# Altium integrated library Linear Technology Operational Amplifiers (LT1000).IntLib: 2280 symbols (part 22 of 79)
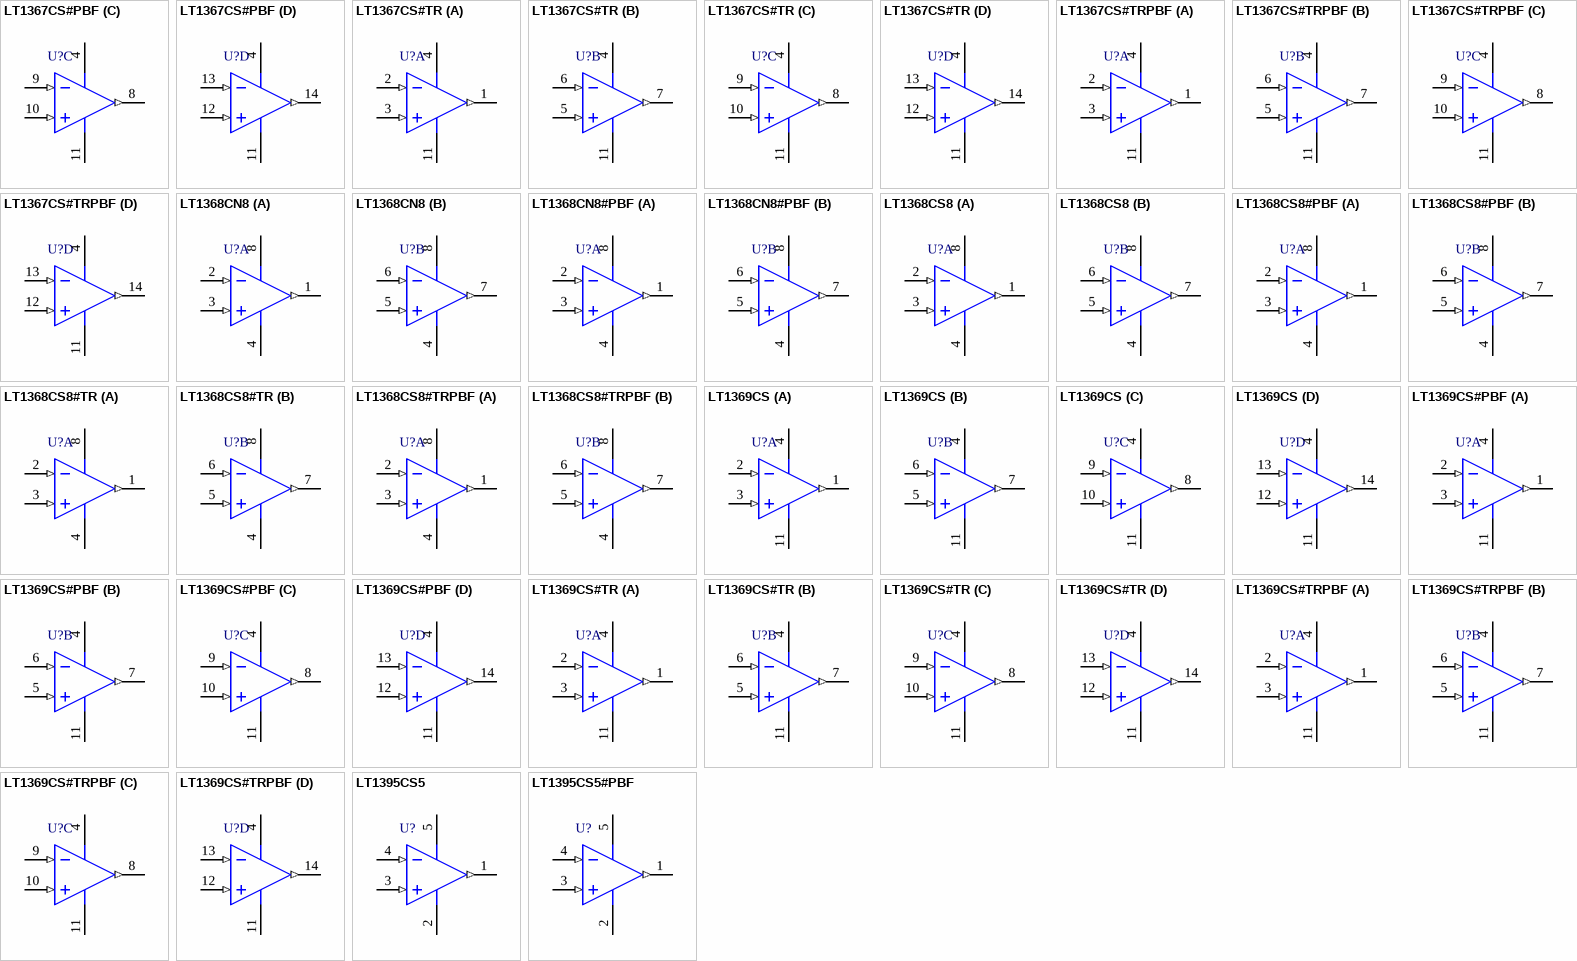
[diagram p126: symbols LT1367CS#PBF to LT1395CS5#PBF]

## LT1369CS#TR
designator U?
Quad Channel, Operational Amplifier, Stable with 100 nF C-load, 0.16 MHz Typical GBW, 0.065 V/us Typical SR, 2 to 36 V, 14-Pin SOIC (S-14), Commercial, Reel; Linear Technology Part Number: LT1369; Manufacturer: Linear Technology; PartNumber: LT1369CS#TR; Channels (#): 4; GBW (MHz) Typical: 0.16; Is (mA) Typical: 0.34; SR (V/us) Typical: 0.065; Vos (mV) Typical: 0.15; Vs Max (V): 36; Vs Min (V): 2; DatasheetVersion: Rev. B; PackageVersion: Rev G; PackageReference: LT-S-14; PackageDescription: 14-Lead Plastic Small Outline, Body 8.65 x 3.90 mm, Pitch 1.27 mm; Supplier 1: Digi-Key; Supplier Part Number 1: LT1369CS#TR-ND; Packing: Reel; Type: VFB; Mounting Technology: Surface Mount; ComponentLink1Description: Manufacturer URL; ComponentLink1URL: http://www.linear.com/; ComponentLink2Description: Datasheet; ComponentLink2URL: http://cds.linear.com/docs/en/datasheet/1366fb.pdf; ComponentLink3Description: Package Specification; ComponentLink3URL: http://cds.linear.com/docs/en/packaging/05081610_G_S14.pdf
footprint LT-S-14_N (SOIC, 14-Leads, Body 8.65x3.90mm, Pitch 1.27mm, IPC Medium Density)
footprint LT-S-14_L (SOIC, 14-Leads, Body 8.65x3.90mm, Pitch 1.27mm, IPC High Density)
footprint LT-S-14_M (SOIC, 14-Leads, Body 8.65x3.90mm, Pitch 1.27mm, IPC Low Density)
pins on every part: 4 V+ (power), 11 V- (power)
part A pins: 1 OUT A (out), 2 -IN A (in), 3 +IN A (in)
part B pins: 5 +IN B (in), 6 -IN B (in), 7 OUT B (out)
part C pins: 8 OUT C (out), 9 -IN C (in), 10 +IN C (in)
part D pins: 12 +IN D (in), 13 -IN D (in), 14 OUT D (out)

## LT1369CS#TRPBF
designator U?
Quad Channel, Operational Amplifier, Stable with 100 nF C-load, 0.16 MHz Typical GBW, 0.065 V/us Typical SR, 2 to 36 V, 14-Pin SOIC (S-14), Commercial, Pb-Free, Reel; Linear Technology Part Number: LT1369; Manufacturer: Linear Technology; PartNumber: LT1369CS#TRPBF; Channels (#): 4; GBW (MHz) Typical: 0.16; Is (mA) Typical: 0.34; SR (V/us) Typical: 0.065; Vos (mV) Typical: 0.15; Vs Max (V): 36; Vs Min (V): 2; DatasheetVersion: Rev. B; PackageVersion: Rev G; PackageReference: LT-S-14; PackageDescription: 14-Lead Plastic Small Outline, Body 8.65 x 3.90 mm, Pitch 1.27 mm; Supplier 1: Digi-Key; Supplier Part Number 1: LT1369CS#TRPBF-ND; Packing: Reel; RoHS: Pb-Free; Type: VFB; Mounting Technology: Surface Mount; ComponentLink1Description: Manufacturer URL; ComponentLink1URL: http://www.linear.com/; ComponentLink2Description: Datasheet; ComponentLink2URL: http://cds.linear.com/docs/en/datasheet/1366fb.pdf; ComponentLink3Description: Package Specification; ComponentLink3URL: http://cds.linear.com/docs/en/packaging/05081610_G_S14.pdf
footprint LT-S-14_N (SOIC, 14-Leads, Body 8.65x3.90mm, Pitch 1.27mm, IPC Medium Density)
footprint LT-S-14_L (SOIC, 14-Leads, Body 8.65x3.90mm, Pitch 1.27mm, IPC High Density)
footprint LT-S-14_M (SOIC, 14-Leads, Body 8.65x3.90mm, Pitch 1.27mm, IPC Low Density)
pins on every part: 4 V+ (power), 11 V- (power)
part A pins: 1 OUT A (out), 2 -IN A (in), 3 +IN A (in)
part B pins: 5 +IN B (in), 6 -IN B (in), 7 OUT B (out)
part C pins: 8 OUT C (out), 9 -IN C (in), 10 +IN C (in)
part D pins: 12 +IN D (in), 13 -IN D (in), 14 OUT D (out)

## LT1395CS5
designator U?
Single Channel, Current Feedback Amplifier, 100 MHz 0.1 dB Bandwidth, 400 MHz Typical GBW, 800 V/us Typical SR, 3 to 12.6 V, 5-Pin SOT23 (S5-5), Commercial; Linear Technology Part Number: LT1395; Manufacturer: Linear Technology; PartNumber: LT1395CS5; Channels (#): 1; GBW (MHz) Typical: 400; Is (mA) Typical: 4.6; SR (V/us) Typical: 800; Vos (mV) Typical: 10; Vs Max (V): 12.6; Vs Min (V): 3; DatasheetVersion: Rev. D; PackageReference: LT-S5-5-TSOT-23; PackageDescription: 5-Lead Plastic TSOT-23, Body 1.63 x 2.90 mm, Pitch 0.95 mm; Type: CFA; Mounting Technology: Surface Mount; Code_JEDEC: MO-193; ComponentLink1Description: Manufacturer URL; ComponentLink1URL: http://www.linear.com/; ComponentLink2Description: Datasheet; ComponentLink2URL: http://cds.linear.com/docs/en/datasheet/139567fd.pdf; ComponentLink3Description: Package Specification; ComponentLink3URL: http://cds.linear.com/docs/en/packaging/SOT_5_05-08-1635.pdf
footprint LT-S5-5-TSOT-23_N (SOT23, 5-Leads, Body 2.90x1.63mm, Pitch 0.95mm, IPC Medium Density)
footprint LT-S5-5-TSOT-23_L (SOT23, 5-Leads, Body 2.90x1.63mm, Pitch 0.95mm, IPC High Density)
footprint LT-S5-5-TSOT-23_M (SOT23, 5-Leads, Body 2.90x1.63mm, Pitch 0.95mm, IPC Low Density)
pins: 1 OUT (out) "Output.", 2 V- (power) "Negative Supply Voltage, Usually -5V.", 3 +IN (in) "Noninverting Input.", 4 -IN (in) "Inverting Input.", 5 V+ (power) "Positive Supply Voltage, Usually 5V."

## LT1395CS5#PBF
designator U?
Single Channel, Current Feedback Amplifier, 100 MHz 0.1 dB Bandwidth, 400 MHz Typical GBW, 800 V/us Typical SR, 3 to 12.6 V, 5-Pin SOT23 (S5-5), Commercial, Pb-Free; Linear Technology Part Number: LT1395; Manufacturer: Linear Technology; PartNumber: LT1395CS5#PBF; Channels (#): 1; GBW (MHz) Typical: 400; Is (mA) Typical: 4.6; SR (V/us) Typical: 800; Vos (mV) Typical: 10; Vs Max (V): 12.6; Vs Min (V): 3; DatasheetVersion: Rev. D; PackageReference: LT-S5-5-TSOT-23; PackageDescription: 5-Lead Plastic TSOT-23, Body 1.63 x 2.90 mm, Pitch 0.95 mm; Supplier 1: Newark; Supplier Part Number 1: 71R4435; Supplier 2: Newark; Supplier Part Number 2: 69W6147; RoHS: Pb-Free; Type: CFA; Mounting Technology: Surface Mount; Code_JEDEC: MO-193; ComponentLink1Description: Manufacturer URL; ComponentLink1URL: http://www.linear.com/; ComponentLink2Description: Datasheet; ComponentLink2URL: http://cds.linear.com/docs/en/datasheet/139567fd.pdf; ComponentLink3Description: Package Specification; ComponentLink3URL: http://cds.linear.com/docs/en/packaging/SOT_5_05-08-1635.pdf
footprint LT-S5-5-TSOT-23_N (SOT23, 5-Leads, Body 2.90x1.63mm, Pitch 0.95mm, IPC Medium Density)
footprint LT-S5-5-TSOT-23_L (SOT23, 5-Leads, Body 2.90x1.63mm, Pitch 0.95mm, IPC High Density)
footprint LT-S5-5-TSOT-23_M (SOT23, 5-Leads, Body 2.90x1.63mm, Pitch 0.95mm, IPC Low Density)
pins: 1 OUT (out) "Output.", 2 V- (power) "Negative Supply Voltage, Usually -5V.", 3 +IN (in) "Noninverting Input.", 4 -IN (in) "Inverting Input.", 5 V+ (power) "Positive Supply Voltage, Usually 5V."

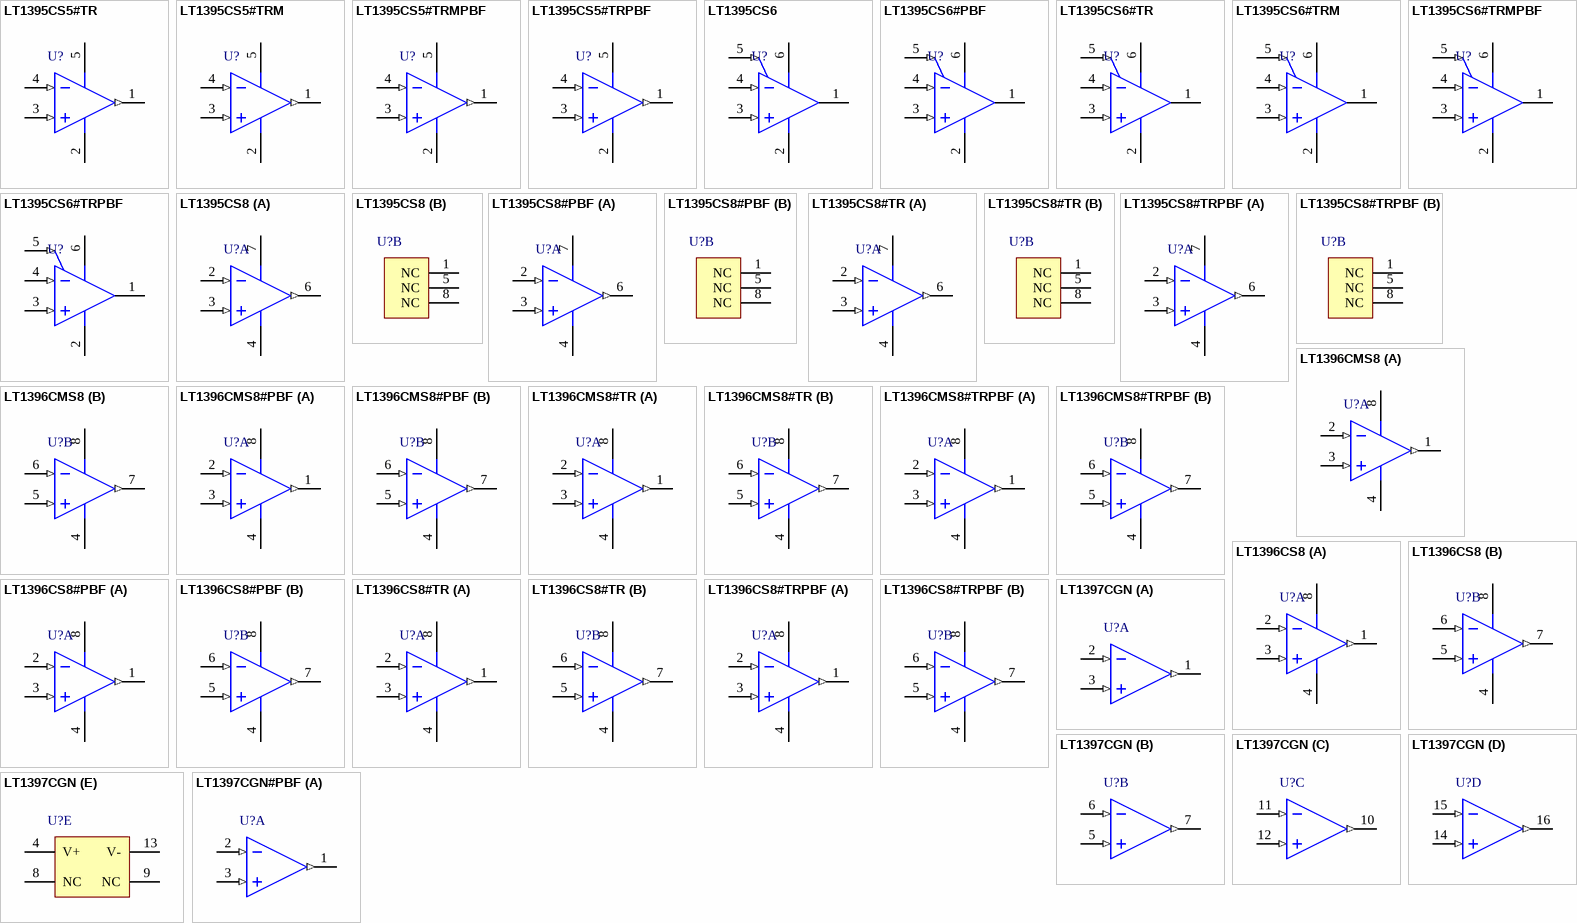
[diagram p34: symbols LT1395CS5#TR to LT1397CGN#PBF]

## LT1395CS5#TR
designator U?
Single Channel, Current Feedback Amplifier, 100 MHz 0.1 dB Bandwidth, 400 MHz Typical GBW, 800 V/us Typical SR, 3 to 12.6 V, 5-Pin SOT23 (S5-5), Commercial, Reel; Linear Technology Part Number: LT1395; Manufacturer: Linear Technology; PartNumber: LT1395CS5#TR; Channels (#): 1; GBW (MHz) Typical: 400; Is (mA) Typical: 4.6; SR (V/us) Typical: 800; Vos (mV) Typical: 10; Vs Max (V): 12.6; Vs Min (V): 3; DatasheetVersion: Rev. D; PackageReference: LT-S5-5-TSOT-23; PackageDescription: 5-Lead Plastic TSOT-23, Body 1.63 x 2.90 mm, Pitch 0.95 mm; Supplier 1: Digi-Key; Supplier Part Number 1: LT1395CS5#TR-ND; Packing: Reel; Type: CFA; Mounting Technology: Surface Mount; Code_JEDEC: MO-193; ComponentLink1Description: Manufacturer URL; ComponentLink1URL: http://www.linear.com/; ComponentLink2Description: Datasheet; ComponentLink2URL: http://cds.linear.com/docs/en/datasheet/139567fd.pdf; ComponentLink3Description: Package Specification; ComponentLink3URL: http://cds.linear.com/docs/en/packaging/SOT_5_05-08-1635.pdf
footprint LT-S5-5-TSOT-23_N (SOT23, 5-Leads, Body 2.90x1.63mm, Pitch 0.95mm, IPC Medium Density)
footprint LT-S5-5-TSOT-23_L (SOT23, 5-Leads, Body 2.90x1.63mm, Pitch 0.95mm, IPC High Density)
footprint LT-S5-5-TSOT-23_M (SOT23, 5-Leads, Body 2.90x1.63mm, Pitch 0.95mm, IPC Low Density)
pins: 1 OUT (out) "Output.", 2 V- (power) "Negative Supply Voltage, Usually -5V.", 3 +IN (in) "Noninverting Input.", 4 -IN (in) "Inverting Input.", 5 V+ (power) "Positive Supply Voltage, Usually 5V."

## LT1395CS5#TRM
designator U?
Single Channel, Current Feedback Amplifier, 100 MHz 0.1 dB Bandwidth, 400 MHz Typical GBW, 800 V/us Typical SR, 3 to 12.6 V, 5-Pin SOT23 (S5-5), Commercial, Mini Reel; Linear Technology Part Number: LT1395; Manufacturer: Linear Technology; PartNumber: LT1395CS5#TRM; Channels (#): 1; GBW (MHz) Typical: 400; Is (mA) Typical: 4.6; SR (V/us) Typical: 800; Vos (mV) Typical: 10; Vs Max (V): 12.6; Vs Min (V): 3; DatasheetVersion: Rev. D; PackageReference: LT-S5-5-TSOT-23; PackageDescription: 5-Lead Plastic TSOT-23, Body 1.63 x 2.90 mm, Pitch 0.95 mm; Supplier 1: Digi-Key; Supplier Part Number 1: LT1395CS5#TRMTR-ND; Supplier 2: Digi-Key; Supplier Part Number 2: LT1395CS5#TRMCT-ND; Packing: Mini Reel; Type: CFA; Mounting Technology: Surface Mount; Code_JEDEC: MO-193; ComponentLink1Description: Manufacturer URL; ComponentLink1URL: http://www.linear.com/; ComponentLink2Description: Datasheet; ComponentLink2URL: http://cds.linear.com/docs/en/datasheet/139567fd.pdf; ComponentLink3Description: Package Specification; ComponentLink3URL: http://cds.linear.com/docs/en/packaging/SOT_5_05-08-1635.pdf
footprint LT-S5-5-TSOT-23_N (SOT23, 5-Leads, Body 2.90x1.63mm, Pitch 0.95mm, IPC Medium Density)
footprint LT-S5-5-TSOT-23_L (SOT23, 5-Leads, Body 2.90x1.63mm, Pitch 0.95mm, IPC High Density)
footprint LT-S5-5-TSOT-23_M (SOT23, 5-Leads, Body 2.90x1.63mm, Pitch 0.95mm, IPC Low Density)
pins: 1 OUT (out) "Output.", 2 V- (power) "Negative Supply Voltage, Usually -5V.", 3 +IN (in) "Noninverting Input.", 4 -IN (in) "Inverting Input.", 5 V+ (power) "Positive Supply Voltage, Usually 5V."

## LT1395CS5#TRMPBF
designator U?
Single Channel, Current Feedback Amplifier, 100 MHz 0.1 dB Bandwidth, 400 MHz Typical GBW, 800 V/us Typical SR, 3 to 12.6 V, 5-Pin SOT23 (S5-5), Commercial, Pb-Free, Mini Reel; Linear Technology Part Number: LT1395; Manufacturer: Linear Technology; PartNumber: LT1395CS5#TRMPBF; Channels (#): 1; GBW (MHz) Typical: 400; Is (mA) Typical: 4.6; SR (V/us) Typical: 800; Vos (mV) Typical: 10; Vs Max (V): 12.6; Vs Min (V): 3; DatasheetVersion: Rev. D; PackageReference: LT-S5-5-TSOT-23; PackageDescription: 5-Lead Plastic TSOT-23, Body 1.63 x 2.90 mm, Pitch 0.95 mm; Supplier 1: Digi-Key; Supplier Part Number 1: LT1395CS5#TRMPBFTR-ND; Supplier 2: Digi-Key; Supplier Part Number 2: LT1395CS5#TRMPBFCT-ND; Supplier 3: Digi-Key; Supplier Part Number 3: LT1395CS5#TRMPBFDKR-ND; Supplier 4: Farnell; Supplier Part Number 4: 1663758; Packing: Mini Reel; RoHS: Pb-Free; Type: CFA; Mounting Technology: Surface Mount; Code_JEDEC: MO-193; ComponentLink1Description: Manufacturer URL; ComponentLink1URL: http://www.linear.com/; ComponentLink2Description: Datasheet; ComponentLink2URL: http://cds.linear.com/docs/en/datasheet/139567fd.pdf; ComponentLink3Description: Package Specification; ComponentLink3URL: http://cds.linear.com/docs/en/packaging/SOT_5_05-08-1635.pdf
footprint LT-S5-5-TSOT-23_N (SOT23, 5-Leads, Body 2.90x1.63mm, Pitch 0.95mm, IPC Medium Density)
footprint LT-S5-5-TSOT-23_L (SOT23, 5-Leads, Body 2.90x1.63mm, Pitch 0.95mm, IPC High Density)
footprint LT-S5-5-TSOT-23_M (SOT23, 5-Leads, Body 2.90x1.63mm, Pitch 0.95mm, IPC Low Density)
pins: 1 OUT (out) "Output.", 2 V- (power) "Negative Supply Voltage, Usually -5V.", 3 +IN (in) "Noninverting Input.", 4 -IN (in) "Inverting Input.", 5 V+ (power) "Positive Supply Voltage, Usually 5V."

## LT1395CS5#TRPBF
designator U?
Single Channel, Current Feedback Amplifier, 100 MHz 0.1 dB Bandwidth, 400 MHz Typical GBW, 800 V/us Typical SR, 3 to 12.6 V, 5-Pin SOT23 (S5-5), Commercial, Pb-Free, Reel; Linear Technology Part Number: LT1395; Manufacturer: Linear Technology; PartNumber: LT1395CS5#TRPBF; Channels (#): 1; GBW (MHz) Typical: 400; Is (mA) Typical: 4.6; SR (V/us) Typical: 800; Vos (mV) Typical: 10; Vs Max (V): 12.6; Vs Min (V): 3; DatasheetVersion: Rev. D; PackageReference: LT-S5-5-TSOT-23; PackageDescription: 5-Lead Plastic TSOT-23, Body 1.63 x 2.90 mm, Pitch 0.95 mm; Supplier 1: Digi-Key; Supplier Part Number 1: LT1395CS5#TRPBF-ND; Supplier 2: Newark; Supplier Part Number 2: 57M3871; Packing: Reel; RoHS: Pb-Free; Type: CFA; Mounting Technology: Surface Mount; Code_JEDEC: MO-193; ComponentLink1Description: Manufacturer URL; ComponentLink1URL: http://www.linear.com/; ComponentLink2Description: Datasheet; ComponentLink2URL: http://cds.linear.com/docs/en/datasheet/139567fd.pdf; ComponentLink3Description: Package Specification; ComponentLink3URL: http://cds.linear.com/docs/en/packaging/SOT_5_05-08-1635.pdf
footprint LT-S5-5-TSOT-23_N (SOT23, 5-Leads, Body 2.90x1.63mm, Pitch 0.95mm, IPC Medium Density)
footprint LT-S5-5-TSOT-23_L (SOT23, 5-Leads, Body 2.90x1.63mm, Pitch 0.95mm, IPC High Density)
footprint LT-S5-5-TSOT-23_M (SOT23, 5-Leads, Body 2.90x1.63mm, Pitch 0.95mm, IPC Low Density)
pins: 1 OUT (out) "Output.", 2 V- (power) "Negative Supply Voltage, Usually -5V.", 3 +IN (in) "Noninverting Input.", 4 -IN (in) "Inverting Input.", 5 V+ (power) "Positive Supply Voltage, Usually 5V."

## LT1395CS6
designator U?
Single Channel, Current Feedback Amplifier, 100 MHz 0.1 dB Bandwidth, 400 MHz Typical GBW, 800 V/us Typical SR, 3 to 12.6 V, 6-Pin SOT23 (S6-6), Commercial; Linear Technology Part Number: LT1395; Manufacturer: Linear Technology; PartNumber: LT1395CS6; Channels (#): 1; GBW (MHz) Typical: 400; Is (mA) Typical: 4.6; SR (V/us) Typical: 800; Vos (mV) Typical: 10; Vs Max (V): 12.6; Vs Min (V): 3; DatasheetVersion: Rev. D; PackageReference: LT-S6-6-TSOT-23; PackageDescription: 6-Pin Plastic TSOT-23, Body 2.9 x 1.63 mm, Pitch 0.95 mm; Type: CFA; Mounting Technology: Surface Mount; Code_JEDEC: MO-193; ComponentLink1Description: Manufacturer URL; ComponentLink1URL: http://www.linear.com/; ComponentLink2Description: Datasheet; ComponentLink2URL: http://cds.linear.com/docs/en/datasheet/139567fd.pdf; ComponentLink3Description: Package Specification; ComponentLink3URL: http://cds.linear.com/docs/en/packaging/SOT_6_05-08-1636.pdf
footprint LT-S6-6-TSOT-23_N (SOT23, 6-Leads, Body 2.90x1.63mm, Pitch 0.95mm, IPC Medium Density)
footprint LT-S6-6-TSOT-23_L (SOT23, 6-Leads, Body 2.90x1.63mm, Pitch 0.95mm, IPC High Density)
footprint LT-S6-6-TSOT-23_M (SOT23, 6-Leads, Body 2.90x1.63mm, Pitch 0.95mm, IPC Low Density)
pins: 1 OUT (hiz) "Output", 2 V- (power) "Negative Supply Voltage, Usually -5V", 3 +IN (in) "Noninverting Input", 4 -IN (in) "Inverting Input", 5 ~{EN} (in) "Enable Pin. Logic low to enable", 6 V+ (power) "Positive Supply Voltage, Usually 5V"

## LT1395CS6#PBF
designator U?
Single Channel, Current Feedback Amplifier, 100 MHz 0.1 dB Bandwidth, 400 MHz Typical GBW, 800 V/us Typical SR, 3 to 12.6 V, 6-Pin SOT23 (S6-6), Commercial, Pb-Free; Linear Technology Part Number: LT1395; Manufacturer: Linear Technology; PartNumber: LT1395CS6#PBF; Channels (#): 1; GBW (MHz) Typical: 400; Is (mA) Typical: 4.6; SR (V/us) Typical: 800; Vos (mV) Typical: 10; Vs Max (V): 12.6; Vs Min (V): 3; DatasheetVersion: Rev. D; PackageReference: LT-S6-6-TSOT-23; PackageDescription: 6-Pin Plastic TSOT-23, Body 2.9 x 1.63 mm, Pitch 0.95 mm; Supplier 1: Newark; Supplier Part Number 1: 78T3688; RoHS: Pb-Free; Type: CFA; Mounting Technology: Surface Mount; Code_JEDEC: MO-193; ComponentLink1Description: Manufacturer URL; ComponentLink1URL: http://www.linear.com/; ComponentLink2Description: Datasheet; ComponentLink2URL: http://cds.linear.com/docs/en/datasheet/139567fd.pdf; ComponentLink3Description: Package Specification; ComponentLink3URL: http://cds.linear.com/docs/en/packaging/SOT_6_05-08-1636.pdf
footprint LT-S6-6-TSOT-23_N (SOT23, 6-Leads, Body 2.90x1.63mm, Pitch 0.95mm, IPC Medium Density)
footprint LT-S6-6-TSOT-23_L (SOT23, 6-Leads, Body 2.90x1.63mm, Pitch 0.95mm, IPC High Density)
footprint LT-S6-6-TSOT-23_M (SOT23, 6-Leads, Body 2.90x1.63mm, Pitch 0.95mm, IPC Low Density)
pins: 1 OUT (hiz) "Output", 2 V- (power) "Negative Supply Voltage, Usually -5V", 3 +IN (in) "Noninverting Input", 4 -IN (in) "Inverting Input", 5 ~{EN} (in) "Enable Pin. Logic low to enable", 6 V+ (power) "Positive Supply Voltage, Usually 5V"

## LT1395CS6#TR
designator U?
Single Channel, Current Feedback Amplifier, 100 MHz 0.1 dB Bandwidth, 400 MHz Typical GBW, 800 V/us Typical SR, 3 to 12.6 V, 6-Pin SOT23 (S6-6), Commercial, Reel; Linear Technology Part Number: LT1395; Manufacturer: Linear Technology; PartNumber: LT1395CS6#TR; Channels (#): 1; GBW (MHz) Typical: 400; Is (mA) Typical: 4.6; SR (V/us) Typical: 800; Vos (mV) Typical: 10; Vs Max (V): 12.6; Vs Min (V): 3; DatasheetVersion: Rev. D; PackageReference: LT-S6-6-TSOT-23; PackageDescription: 6-Pin Plastic TSOT-23, Body 2.9 x 1.63 mm, Pitch 0.95 mm; Supplier 1: Digi-Key; Supplier Part Number 1: LT1395CS6#TR-ND; Packing: Reel; Type: CFA; Mounting Technology: Surface Mount; Code_JEDEC: MO-193; ComponentLink1Description: Manufacturer URL; ComponentLink1URL: http://www.linear.com/; ComponentLink2Description: Datasheet; ComponentLink2URL: http://cds.linear.com/docs/en/datasheet/139567fd.pdf; ComponentLink3Description: Package Specification; ComponentLink3URL: http://cds.linear.com/docs/en/packaging/SOT_6_05-08-1636.pdf
footprint LT-S6-6-TSOT-23_N (SOT23, 6-Leads, Body 2.90x1.63mm, Pitch 0.95mm, IPC Medium Density)
footprint LT-S6-6-TSOT-23_L (SOT23, 6-Leads, Body 2.90x1.63mm, Pitch 0.95mm, IPC High Density)
footprint LT-S6-6-TSOT-23_M (SOT23, 6-Leads, Body 2.90x1.63mm, Pitch 0.95mm, IPC Low Density)
pins: 1 OUT (hiz) "Output", 2 V- (power) "Negative Supply Voltage, Usually -5V", 3 +IN (in) "Noninverting Input", 4 -IN (in) "Inverting Input", 5 ~{EN} (in) "Enable Pin. Logic low to enable", 6 V+ (power) "Positive Supply Voltage, Usually 5V"

## LT1395CS6#TRM
designator U?
Single Channel, Current Feedback Amplifier, 100 MHz 0.1 dB Bandwidth, 400 MHz Typical GBW, 800 V/us Typical SR, 3 to 12.6 V, 6-Pin SOT23 (S6-6), Commercial, Mini Reel; Linear Technology Part Number: LT1395; Manufacturer: Linear Technology; PartNumber: LT1395CS6#TRM; Channels (#): 1; GBW (MHz) Typical: 400; Is (mA) Typical: 4.6; SR (V/us) Typical: 800; Vos (mV) Typical: 10; Vs Max (V): 12.6; Vs Min (V): 3; DatasheetVersion: Rev. D; PackageReference: LT-S6-6-TSOT-23; PackageDescription: 6-Pin Plastic TSOT-23, Body 2.9 x 1.63 mm, Pitch 0.95 mm; Supplier 1: Digi-Key; Supplier Part Number 1: LT1395CS6#TRMCT-ND; Packing: Mini Reel; Type: CFA; Mounting Technology: Surface Mount; Code_JEDEC: MO-193; ComponentLink1Description: Manufacturer URL; ComponentLink1URL: http://www.linear.com/; ComponentLink2Description: Datasheet; ComponentLink2URL: http://cds.linear.com/docs/en/datasheet/139567fd.pdf; ComponentLink3Description: Package Specification; ComponentLink3URL: http://cds.linear.com/docs/en/packaging/SOT_6_05-08-1636.pdf
footprint LT-S6-6-TSOT-23_N (SOT23, 6-Leads, Body 2.90x1.63mm, Pitch 0.95mm, IPC Medium Density)
footprint LT-S6-6-TSOT-23_L (SOT23, 6-Leads, Body 2.90x1.63mm, Pitch 0.95mm, IPC High Density)
footprint LT-S6-6-TSOT-23_M (SOT23, 6-Leads, Body 2.90x1.63mm, Pitch 0.95mm, IPC Low Density)
pins: 1 OUT (hiz) "Output", 2 V- (power) "Negative Supply Voltage, Usually -5V", 3 +IN (in) "Noninverting Input", 4 -IN (in) "Inverting Input", 5 ~{EN} (in) "Enable Pin. Logic low to enable", 6 V+ (power) "Positive Supply Voltage, Usually 5V"

## LT1395CS6#TRMPBF
designator U?
Single Channel, Current Feedback Amplifier, 100 MHz 0.1 dB Bandwidth, 400 MHz Typical GBW, 800 V/us Typical SR, 3 to 12.6 V, 6-Pin SOT23 (S6-6), Commercial, Pb-Free, Mini Reel; Linear Technology Part Number: LT1395; Manufacturer: Linear Technology; PartNumber: LT1395CS6#TRMPBF; Channels (#): 1; GBW (MHz) Typical: 400; Is (mA) Typical: 4.6; SR (V/us) Typical: 800; Vos (mV) Typical: 10; Vs Max (V): 12.6; Vs Min (V): 3; DatasheetVersion: Rev. D; PackageReference: LT-S6-6-TSOT-23; PackageDescription: 6-Pin Plastic TSOT-23, Body 2.9 x 1.63 mm, Pitch 0.95 mm; Supplier 1: Digi-Key; Supplier Part Number 1: LT1395CS6#TRMPBFTR-ND; Supplier 2: Digi-Key; Supplier Part Number 2: LT1395CS6#TRMPBFCT-ND; Supplier 3: Digi-Key; Supplier Part Number 3: LT1395CS6#TRMPBFDKR-ND; Packing: Mini Reel; RoHS: Pb-Free; Type: CFA; Mounting Technology: Surface Mount; Code_JEDEC: MO-193; ComponentLink1Description: Manufacturer URL; ComponentLink1URL: http://www.linear.com/; ComponentLink2Description: Datasheet; ComponentLink2URL: http://cds.linear.com/docs/en/datasheet/139567fd.pdf; ComponentLink3Description: Package Specification; ComponentLink3URL: http://cds.linear.com/docs/en/packaging/SOT_6_05-08-1636.pdf
footprint LT-S6-6-TSOT-23_N (SOT23, 6-Leads, Body 2.90x1.63mm, Pitch 0.95mm, IPC Medium Density)
footprint LT-S6-6-TSOT-23_L (SOT23, 6-Leads, Body 2.90x1.63mm, Pitch 0.95mm, IPC High Density)
footprint LT-S6-6-TSOT-23_M (SOT23, 6-Leads, Body 2.90x1.63mm, Pitch 0.95mm, IPC Low Density)
pins: 1 OUT (hiz) "Output", 2 V- (power) "Negative Supply Voltage, Usually -5V", 3 +IN (in) "Noninverting Input", 4 -IN (in) "Inverting Input", 5 ~{EN} (in) "Enable Pin. Logic low to enable", 6 V+ (power) "Positive Supply Voltage, Usually 5V"

## LT1395CS6#TRPBF
designator U?
Single Channel, Current Feedback Amplifier, 100 MHz 0.1 dB Bandwidth, 400 MHz Typical GBW, 800 V/us Typical SR, 3 to 12.6 V, 6-Pin SOT23 (S6-6), Commercial, Pb-Free, Reel; Linear Technology Part Number: LT1395; Manufacturer: Linear Technology; PartNumber: LT1395CS6#TRPBF; Channels (#): 1; GBW (MHz) Typical: 400; Is (mA) Typical: 4.6; SR (V/us) Typical: 800; Vos (mV) Typical: 10; Vs Max (V): 12.6; Vs Min (V): 3; DatasheetVersion: Rev. D; PackageReference: LT-S6-6-TSOT-23; PackageDescription: 6-Pin Plastic TSOT-23, Body 2.9 x 1.63 mm, Pitch 0.95 mm; Supplier 1: Digi-Key; Supplier Part Number 1: LT1395CS6#TRPBF-ND; Packing: Reel; RoHS: Pb-Free; Type: CFA; Mounting Technology: Surface Mount; Code_JEDEC: MO-193; ComponentLink1Description: Manufacturer URL; ComponentLink1URL: http://www.linear.com/; ComponentLink2Description: Datasheet; ComponentLink2URL: http://cds.linear.com/docs/en/datasheet/139567fd.pdf; ComponentLink3Description: Package Specification; ComponentLink3URL: http://cds.linear.com/docs/en/packaging/SOT_6_05-08-1636.pdf
footprint LT-S6-6-TSOT-23_N (SOT23, 6-Leads, Body 2.90x1.63mm, Pitch 0.95mm, IPC Medium Density)
footprint LT-S6-6-TSOT-23_L (SOT23, 6-Leads, Body 2.90x1.63mm, Pitch 0.95mm, IPC High Density)
footprint LT-S6-6-TSOT-23_M (SOT23, 6-Leads, Body 2.90x1.63mm, Pitch 0.95mm, IPC Low Density)
pins: 1 OUT (hiz) "Output", 2 V- (power) "Negative Supply Voltage, Usually -5V", 3 +IN (in) "Noninverting Input", 4 -IN (in) "Inverting Input", 5 ~{EN} (in) "Enable Pin. Logic low to enable", 6 V+ (power) "Positive Supply Voltage, Usually 5V"

## LT1395CS8
designator U?
Single Channel, Current Feedback Amplifier, 100 MHz 0.1 dB Bandwidth, 400 MHz Typical GBW, 800 V/us Typical SR, 3 to 12.6 V, 8-Pin SOIC (S8-8), Commercial; Linear Technology Part Number: LT1395; Manufacturer: Linear Technology; PartNumber: LT1395CS8; Channels (#): 1; GBW (MHz) Typical: 400; Is (mA) Typical: 4.6; SR (V/us) Typical: 800; Vos (mV) Typical: 10; Vs Max (V): 12.6; Vs Min (V): 3; DatasheetVersion: Rev. D; PackageVersion: Rev G; PackageReference: LT-S8-8; PackageDescription: 8-Pin Plastic Small Outline, Body 4.9 x 3.9 mm, Pitch 1.27 mm; Supplier 1: Digi-Key; Supplier Part Number 1: LT1395CS8-ND; Type: CFA; Mounting Technology: Surface Mount; ComponentLink1Description: Manufacturer URL; ComponentLink1URL: http://www.linear.com/; ComponentLink2Description: Datasheet; ComponentLink2URL: http://cds.linear.com/docs/en/datasheet/139567fd.pdf; ComponentLink3Description: Package Specification; ComponentLink3URL: http://cds.linear.com/docs/en/packaging/05081610_G_SO8.pdf
footprint LT-S8-8_N (SOIC, 8-Leads, Body 4.9x3.9mm, Pitch 1.27mm, IPC Medium Density)
footprint LT-S8-8_L (SOIC, 8-Leads, Body 4.9x3.9mm, Pitch 1.27mm, IPC High Density)
footprint LT-S8-8_M (SOIC, 8-Leads, Body 4.9x3.9mm, Pitch 1.27mm, IPC Low Density)
part A pins: 2 -IN  (in), 3 +IN  (in), 4 V- (power), 6 OUT (out), 7 V+ (power)
part B pins: 1 NC "No Connection.", 5 NC "No Connection.", 8 NC "No Connection."

## LT1395CS8#PBF
designator U?
Single Channel, Current Feedback Amplifier, 100 MHz 0.1 dB Bandwidth, 400 MHz Typical GBW, 800 V/us Typical SR, 3 to 12.6 V, 8-Pin SOIC (S8-8), Commercial, Pb-Free; Linear Technology Part Number: LT1395; Manufacturer: Linear Technology; PartNumber: LT1395CS8#PBF; Channels (#): 1; GBW (MHz) Typical: 400; Is (mA) Typical: 4.6; SR (V/us) Typical: 800; Vos (mV) Typical: 10; Vs Max (V): 12.6; Vs Min (V): 3; DatasheetVersion: Rev. D; PackageVersion: Rev G; PackageReference: LT-S8-8; PackageDescription: 8-Pin Plastic Small Outline, Body 4.9 x 3.9 mm, Pitch 1.27 mm; Supplier 1: Digi-Key; Supplier Part Number 1: LT1395CS8#PBF-ND; Supplier 2: Farnell; Supplier Part Number 2: 1330647; Supplier 3: Newark; Supplier Part Number 3: 57M3877; RoHS: Pb-Free; Type: CFA; Mounting Technology: Surface Mount; ComponentLink1Description: Manufacturer URL; ComponentLink1URL: http://www.linear.com/; ComponentLink2Description: Datasheet; ComponentLink2URL: http://cds.linear.com/docs/en/datasheet/139567fd.pdf; ComponentLink3Description: Package Specification; ComponentLink3URL: http://cds.linear.com/docs/en/packaging/05081610_G_SO8.pdf
footprint LT-S8-8_N (SOIC, 8-Leads, Body 4.9x3.9mm, Pitch 1.27mm, IPC Medium Density)
footprint LT-S8-8_L (SOIC, 8-Leads, Body 4.9x3.9mm, Pitch 1.27mm, IPC High Density)
footprint LT-S8-8_M (SOIC, 8-Leads, Body 4.9x3.9mm, Pitch 1.27mm, IPC Low Density)
part A pins: 2 -IN  (in), 3 +IN  (in), 4 V- (power), 6 OUT (out), 7 V+ (power)
part B pins: 1 NC "No Connection.", 5 NC "No Connection.", 8 NC "No Connection."

## LT1395CS8#TR
designator U?
Single Channel, Current Feedback Amplifier, 100 MHz 0.1 dB Bandwidth, 400 MHz Typical GBW, 800 V/us Typical SR, 3 to 12.6 V, 8-Pin SOIC (S8-8), Commercial, Reel; Linear Technology Part Number: LT1395; Manufacturer: Linear Technology; PartNumber: LT1395CS8#TR; Channels (#): 1; GBW (MHz) Typical: 400; Is (mA) Typical: 4.6; SR (V/us) Typical: 800; Vos (mV) Typical: 10; Vs Max (V): 12.6; Vs Min (V): 3; DatasheetVersion: Rev. D; PackageVersion: Rev G; PackageReference: LT-S8-8; PackageDescription: 8-Pin Plastic Small Outline, Body 4.9 x 3.9 mm, Pitch 1.27 mm; Supplier 1: Digi-Key; Supplier Part Number 1: LT1395CS8#TR-ND; Packing: Reel; Type: CFA; Mounting Technology: Surface Mount; ComponentLink1Description: Manufacturer URL; ComponentLink1URL: http://www.linear.com/; ComponentLink2Description: Datasheet; ComponentLink2URL: http://cds.linear.com/docs/en/datasheet/139567fd.pdf; ComponentLink3Description: Package Specification; ComponentLink3URL: http://cds.linear.com/docs/en/packaging/05081610_G_SO8.pdf
footprint LT-S8-8_N (SOIC, 8-Leads, Body 4.9x3.9mm, Pitch 1.27mm, IPC Medium Density)
footprint LT-S8-8_L (SOIC, 8-Leads, Body 4.9x3.9mm, Pitch 1.27mm, IPC High Density)
footprint LT-S8-8_M (SOIC, 8-Leads, Body 4.9x3.9mm, Pitch 1.27mm, IPC Low Density)
part A pins: 2 -IN  (in), 3 +IN  (in), 4 V- (power), 6 OUT (out), 7 V+ (power)
part B pins: 1 NC "No Connection.", 5 NC "No Connection.", 8 NC "No Connection."

## LT1395CS8#TRPBF
designator U?
Single Channel, Current Feedback Amplifier, 100 MHz 0.1 dB Bandwidth, 400 MHz Typical GBW, 800 V/us Typical SR, 3 to 12.6 V, 8-Pin SOIC (S8-8), Commercial, Pb-Free, Reel; Linear Technology Part Number: LT1395; Manufacturer: Linear Technology; PartNumber: LT1395CS8#TRPBF; Channels (#): 1; GBW (MHz) Typical: 400; Is (mA) Typical: 4.6; SR (V/us) Typical: 800; Vos (mV) Typical: 10; Vs Max (V): 12.6; Vs Min (V): 3; DatasheetVersion: Rev. D; PackageVersion: Rev G; PackageReference: LT-S8-8; PackageDescription: 8-Pin Plastic Small Outline, Body 4.9 x 3.9 mm, Pitch 1.27 mm; Supplier 1: Digi-Key; Supplier Part Number 1: LT1395CS8#TRPBF-ND; Packing: Reel; RoHS: Pb-Free; Type: CFA; Mounting Technology: Surface Mount; ComponentLink1Description: Manufacturer URL; ComponentLink1URL: http://www.linear.com/; ComponentLink2Description: Datasheet; ComponentLink2URL: http://cds.linear.com/docs/en/datasheet/139567fd.pdf; ComponentLink3Description: Package Specification; ComponentLink3URL: http://cds.linear.com/docs/en/packaging/05081610_G_SO8.pdf
footprint LT-S8-8_N (SOIC, 8-Leads, Body 4.9x3.9mm, Pitch 1.27mm, IPC Medium Density)
footprint LT-S8-8_L (SOIC, 8-Leads, Body 4.9x3.9mm, Pitch 1.27mm, IPC High Density)
footprint LT-S8-8_M (SOIC, 8-Leads, Body 4.9x3.9mm, Pitch 1.27mm, IPC Low Density)
part A pins: 2 -IN  (in), 3 +IN  (in), 4 V- (power), 6 OUT (out), 7 V+ (power)
part B pins: 1 NC "No Connection.", 5 NC "No Connection.", 8 NC "No Connection."

## LT1396CMS8
designator U?
Dual Channel, Current Feedback Amplifier, 100 MHz 0.1 dB Bandwidth, 400 MHz Typical GBW, 800 V/us Typical SR, 3 to 12.6 V, 8-Pin SOP (MS8-8), Commercial; Linear Technology Part Number: LT1396; Manufacturer: Linear Technology; PartNumber: LT1396CMS8; Channels (#): 2; GBW (MHz) Typical: 400; Is (mA) Typical: 4.6; SR (V/us) Typical: 800; Vos (mV) Typical: 10; Vs Max (V): 12.6; Vs Min (V): 3; DatasheetVersion: Rev. D; PackageVersion: Rev G; PackageReference: LT-MS8-8; PackageDescription: 8-Lead Plastic Small Outline, Body 3.9 x 4.9 mm, Pitch 1.27 mm; Supplier 1: Digi-Key; Supplier Part Number 1: LT1396CMS8-ND; Type: CFA; Mounting Technology: Surface Mount; ComponentLink1Description: Manufacturer URL; ComponentLink1URL: http://www.linear.com/; ComponentLink2Description: Datasheet; ComponentLink2URL: http://cds.linear.com/docs/en/datasheet/139567fd.pdf; ComponentLink3Description: Package Specification; ComponentLink3URL: http://cds.linear.com/docs/en/packaging/05081610_G_SO8.pdf
footprint LT-MS8-8_N (SOP, 8-Leads, Body 3x3mm, Pitch 0.65mm, IPC Medium Density)
footprint LT-MS8-8_L (SOP, 8-Leads, Body 3x3mm, Pitch 0.65mm, IPC High Density)
footprint LT-MS8-8_M (SOP, 8-Leads, Body 3x3mm, Pitch 0.65mm, IPC Low Density)
pins on every part: 4 V- (power) "Negative Supply Voltage, Usually -5V.", 8 V+ (power) "Positive Supply Voltage, Usually 5V."
part A pins: 1 OUT A (out) "A Channel Output", 2 -IN A (in) "Inverting Input of A Channel Amplifier.", 3 +IN A (in) "Noninverting Input of A Channel Amplifier."
part B pins: 5 +IN B (in) "Noninverting Input of B Channel Amplifier.", 6 -IN B (in) "Inverting Input of B Channel Amplifier.", 7 OUT B (out) "B Channel Output."

## LT1396CMS8#PBF
designator U?
Dual Channel, Current Feedback Amplifier, 100 MHz 0.1 dB Bandwidth, 400 MHz Typical GBW, 800 V/us Typical SR, 3 to 12.6 V, 8-Pin SOP (MS8-8), Commercial, Pb-Free; Linear Technology Part Number: LT1396; Manufacturer: Linear Technology; PartNumber: LT1396CMS8#PBF; Channels (#): 2; GBW (MHz) Typical: 400; Is (mA) Typical: 4.6; SR (V/us) Typical: 800; Vos (mV) Typical: 10; Vs Max (V): 12.6; Vs Min (V): 3; DatasheetVersion: Rev. D; PackageVersion: Rev G; PackageReference: LT-MS8-8; PackageDescription: 8-Lead Plastic Small Outline, Body 3.9 x 4.9 mm, Pitch 1.27 mm; Supplier 1: Digi-Key; Supplier Part Number 1: LT1396CMS8#PBF-ND; Supplier 2: Farnell; Supplier Part Number 2: 1330648; Supplier 3: Newark; Supplier Part Number 3: 57M3885; RoHS: Pb-Free; Type: CFA; Mounting Technology: Surface Mount; ComponentLink1Description: Manufacturer URL; ComponentLink1URL: http://www.linear.com/; ComponentLink2Description: Datasheet; ComponentLink2URL: http://cds.linear.com/docs/en/datasheet/139567fd.pdf; ComponentLink3Description: Package Specification; ComponentLink3URL: http://cds.linear.com/docs/en/packaging/05081610_G_SO8.pdf
footprint LT-MS8-8_N (SOP, 8-Leads, Body 3x3mm, Pitch 0.65mm, IPC Medium Density)
footprint LT-MS8-8_L (SOP, 8-Leads, Body 3x3mm, Pitch 0.65mm, IPC High Density)
footprint LT-MS8-8_M (SOP, 8-Leads, Body 3x3mm, Pitch 0.65mm, IPC Low Density)
pins on every part: 4 V- (power) "Negative Supply Voltage, Usually -5V.", 8 V+ (power) "Positive Supply Voltage, Usually 5V."
part A pins: 1 OUT A (out) "A Channel Output", 2 -IN A (in) "Inverting Input of A Channel Amplifier.", 3 +IN A (in) "Noninverting Input of A Channel Amplifier."
part B pins: 5 +IN B (in) "Noninverting Input of B Channel Amplifier.", 6 -IN B (in) "Inverting Input of B Channel Amplifier.", 7 OUT B (out) "B Channel Output."

## LT1396CMS8#TR
designator U?
Dual Channel, Current Feedback Amplifier, 100 MHz 0.1 dB Bandwidth, 400 MHz Typical GBW, 800 V/us Typical SR, 3 to 12.6 V, 8-Pin SOP (MS8-8), Commercial, Reel; Linear Technology Part Number: LT1396; Manufacturer: Linear Technology; PartNumber: LT1396CMS8#TR; Channels (#): 2; GBW (MHz) Typical: 400; Is (mA) Typical: 4.6; SR (V/us) Typical: 800; Vos (mV) Typical: 10; Vs Max (V): 12.6; Vs Min (V): 3; DatasheetVersion: Rev. D; PackageVersion: Rev G; PackageReference: LT-MS8-8; PackageDescription: 8-Lead Plastic Small Outline, Body 3.9 x 4.9 mm, Pitch 1.27 mm; Supplier 1: Digi-Key; Supplier Part Number 1: LT1396CMS8#TR-ND; Packing: Reel; Type: CFA; Mounting Technology: Surface Mount; ComponentLink1Description: Manufacturer URL; ComponentLink1URL: http://www.linear.com/; ComponentLink2Description: Datasheet; ComponentLink2URL: http://cds.linear.com/docs/en/datasheet/139567fd.pdf; ComponentLink3Description: Package Specification; ComponentLink3URL: http://cds.linear.com/docs/en/packaging/05081610_G_SO8.pdf
footprint LT-MS8-8_N (SOP, 8-Leads, Body 3x3mm, Pitch 0.65mm, IPC Medium Density)
footprint LT-MS8-8_L (SOP, 8-Leads, Body 3x3mm, Pitch 0.65mm, IPC High Density)
footprint LT-MS8-8_M (SOP, 8-Leads, Body 3x3mm, Pitch 0.65mm, IPC Low Density)
pins on every part: 4 V- (power) "Negative Supply Voltage, Usually -5V.", 8 V+ (power) "Positive Supply Voltage, Usually 5V."
part A pins: 1 OUT A (out) "A Channel Output", 2 -IN A (in) "Inverting Input of A Channel Amplifier.", 3 +IN A (in) "Noninverting Input of A Channel Amplifier."
part B pins: 5 +IN B (in) "Noninverting Input of B Channel Amplifier.", 6 -IN B (in) "Inverting Input of B Channel Amplifier.", 7 OUT B (out) "B Channel Output."

## LT1396CMS8#TRPBF
designator U?
Dual Channel, Current Feedback Amplifier, 100 MHz 0.1 dB Bandwidth, 400 MHz Typical GBW, 800 V/us Typical SR, 3 to 12.6 V, 8-Pin SOP (MS8-8), Commercial, Pb-Free, Reel; Linear Technology Part Number: LT1396; Manufacturer: Linear Technology; PartNumber: LT1396CMS8#TRPBF; Channels (#): 2; GBW (MHz) Typical: 400; Is (mA) Typical: 4.6; SR (V/us) Typical: 800; Vos (mV) Typical: 10; Vs Max (V): 12.6; Vs Min (V): 3; DatasheetVersion: Rev. D; PackageVersion: Rev G; PackageReference: LT-MS8-8; PackageDescription: 8-Lead Plastic Small Outline, Body 3.9 x 4.9 mm, Pitch 1.27 mm; Supplier 1: Digi-Key; Supplier Part Number 1: LT1396CMS8#TRPBF-ND; Packing: Reel; RoHS: Pb-Free; Type: CFA; Mounting Technology: Surface Mount; ComponentLink1Description: Manufacturer URL; ComponentLink1URL: http://www.linear.com/; ComponentLink2Description: Datasheet; ComponentLink2URL: http://cds.linear.com/docs/en/datasheet/139567fd.pdf; ComponentLink3Description: Package Specification; ComponentLink3URL: http://cds.linear.com/docs/en/packaging/05081610_G_SO8.pdf
footprint LT-MS8-8_N (SOP, 8-Leads, Body 3x3mm, Pitch 0.65mm, IPC Medium Density)
footprint LT-MS8-8_L (SOP, 8-Leads, Body 3x3mm, Pitch 0.65mm, IPC High Density)
footprint LT-MS8-8_M (SOP, 8-Leads, Body 3x3mm, Pitch 0.65mm, IPC Low Density)
pins on every part: 4 V- (power) "Negative Supply Voltage, Usually -5V.", 8 V+ (power) "Positive Supply Voltage, Usually 5V."
part A pins: 1 OUT A (out) "A Channel Output", 2 -IN A (in) "Inverting Input of A Channel Amplifier.", 3 +IN A (in) "Noninverting Input of A Channel Amplifier."
part B pins: 5 +IN B (in) "Noninverting Input of B Channel Amplifier.", 6 -IN B (in) "Inverting Input of B Channel Amplifier.", 7 OUT B (out) "B Channel Output."

## LT1396CS8
designator U?
Dual Channel, Current Feedback Amplifier, 100 MHz 0.1 dB Bandwidth, 400 MHz Typical GBW, 800 V/us Typical SR, 3 to 12.6 V, 8-Pin SOIC (S8-8), Commercial; Linear Technology Part Number: LT1396; Manufacturer: Linear Technology; PartNumber: LT1396CS8; Channels (#): 2; GBW (MHz) Typical: 400; Is (mA) Typical: 4.6; SR (V/us) Typical: 800; Vos (mV) Typical: 10; Vs Max (V): 12.6; Vs Min (V): 3; DatasheetVersion: Rev. D; PackageVersion: Rev G; PackageReference: LT-S8-8; PackageDescription: 8-Pin Plastic Small Outline, Body 4.9 x 3.9 mm, Pitch 1.27 mm; Supplier 1: Digi-Key; Supplier Part Number 1: LT1396CS8-ND; Type: CFA; Mounting Technology: Surface Mount; ComponentLink1Description: Manufacturer URL; ComponentLink1URL: http://www.linear.com/; ComponentLink2Description: Datasheet; ComponentLink2URL: http://cds.linear.com/docs/en/datasheet/139567fd.pdf; ComponentLink3Description: Package Specification; ComponentLink3URL: http://cds.linear.com/docs/en/packaging/05081610_G_SO8.pdf
footprint LT-S8-8_N (SOIC, 8-Leads, Body 4.9x3.9mm, Pitch 1.27mm, IPC Medium Density)
footprint LT-S8-8_L (SOIC, 8-Leads, Body 4.9x3.9mm, Pitch 1.27mm, IPC High Density)
footprint LT-S8-8_M (SOIC, 8-Leads, Body 4.9x3.9mm, Pitch 1.27mm, IPC Low Density)
pins on every part: 4 V- (power), 8 V+ (power)
part A pins: 1 OUT A (out), 2 -IN A (in), 3 +IN A (in)
part B pins: 5 +IN B (in), 6 -IN B (in), 7 OUT B (out)

## LT1396CS8#PBF
designator U?
Dual Channel, Current Feedback Amplifier, 100 MHz 0.1 dB Bandwidth, 400 MHz Typical GBW, 800 V/us Typical SR, 3 to 12.6 V, 8-Pin SOIC (S8-8), Commercial, Pb-Free; Linear Technology Part Number: LT1396; Manufacturer: Linear Technology; PartNumber: LT1396CS8#PBF; Channels (#): 2; GBW (MHz) Typical: 400; Is (mA) Typical: 4.6; SR (V/us) Typical: 800; Vos (mV) Typical: 10; Vs Max (V): 12.6; Vs Min (V): 3; DatasheetVersion: Rev. D; PackageVersion: Rev G; PackageReference: LT-S8-8; PackageDescription: 8-Pin Plastic Small Outline, Body 4.9 x 3.9 mm, Pitch 1.27 mm; Supplier 1: Digi-Key; Supplier Part Number 1: LT1396CS8#PBF-ND; Supplier 2: Newark; Supplier Part Number 2: 57M3889; RoHS: Pb-Free; Type: CFA; Mounting Technology: Surface Mount; ComponentLink1Description: Manufacturer URL; ComponentLink1URL: http://www.linear.com/; ComponentLink2Description: Datasheet; ComponentLink2URL: http://cds.linear.com/docs/en/datasheet/139567fd.pdf; ComponentLink3Description: Package Specification; ComponentLink3URL: http://cds.linear.com/docs/en/packaging/05081610_G_SO8.pdf
footprint LT-S8-8_N (SOIC, 8-Leads, Body 4.9x3.9mm, Pitch 1.27mm, IPC Medium Density)
footprint LT-S8-8_L (SOIC, 8-Leads, Body 4.9x3.9mm, Pitch 1.27mm, IPC High Density)
footprint LT-S8-8_M (SOIC, 8-Leads, Body 4.9x3.9mm, Pitch 1.27mm, IPC Low Density)
pins on every part: 4 V- (power), 8 V+ (power)
part A pins: 1 OUT A (out), 2 -IN A (in), 3 +IN A (in)
part B pins: 5 +IN B (in), 6 -IN B (in), 7 OUT B (out)

## LT1396CS8#TR
designator U?
Dual Channel, Current Feedback Amplifier, 100 MHz 0.1 dB Bandwidth, 400 MHz Typical GBW, 800 V/us Typical SR, 3 to 12.6 V, 8-Pin SOIC (S8-8), Commercial, Reel; Linear Technology Part Number: LT1396; Manufacturer: Linear Technology; PartNumber: LT1396CS8#TR; Channels (#): 2; GBW (MHz) Typical: 400; Is (mA) Typical: 4.6; SR (V/us) Typical: 800; Vos (mV) Typical: 10; Vs Max (V): 12.6; Vs Min (V): 3; DatasheetVersion: Rev. D; PackageVersion: Rev G; PackageReference: LT-S8-8; PackageDescription: 8-Pin Plastic Small Outline, Body 4.9 x 3.9 mm, Pitch 1.27 mm; Supplier 1: Digi-Key; Supplier Part Number 1: LT1396CS8#TR-ND; Packing: Reel; Type: CFA; Mounting Technology: Surface Mount; ComponentLink1Description: Manufacturer URL; ComponentLink1URL: http://www.linear.com/; ComponentLink2Description: Datasheet; ComponentLink2URL: http://cds.linear.com/docs/en/datasheet/139567fd.pdf; ComponentLink3Description: Package Specification; ComponentLink3URL: http://cds.linear.com/docs/en/packaging/05081610_G_SO8.pdf
footprint LT-S8-8_N (SOIC, 8-Leads, Body 4.9x3.9mm, Pitch 1.27mm, IPC Medium Density)
footprint LT-S8-8_L (SOIC, 8-Leads, Body 4.9x3.9mm, Pitch 1.27mm, IPC High Density)
footprint LT-S8-8_M (SOIC, 8-Leads, Body 4.9x3.9mm, Pitch 1.27mm, IPC Low Density)
pins on every part: 4 V- (power), 8 V+ (power)
part A pins: 1 OUT A (out), 2 -IN A (in), 3 +IN A (in)
part B pins: 5 +IN B (in), 6 -IN B (in), 7 OUT B (out)

## LT1396CS8#TRPBF
designator U?
Dual Channel, Current Feedback Amplifier, 100 MHz 0.1 dB Bandwidth, 400 MHz Typical GBW, 800 V/us Typical SR, 3 to 12.6 V, 8-Pin SOIC (S8-8), Commercial, Pb-Free, Reel; Linear Technology Part Number: LT1396; Manufacturer: Linear Technology; PartNumber: LT1396CS8#TRPBF; Channels (#): 2; GBW (MHz) Typical: 400; Is (mA) Typical: 4.6; SR (V/us) Typical: 800; Vos (mV) Typical: 10; Vs Max (V): 12.6; Vs Min (V): 3; DatasheetVersion: Rev. D; PackageVersion: Rev G; PackageReference: LT-S8-8; PackageDescription: 8-Pin Plastic Small Outline, Body 4.9 x 3.9 mm, Pitch 1.27 mm; Supplier 1: Digi-Key; Supplier Part Number 1: LT1396CS8#TRPBF-ND; Packing: Reel; RoHS: Pb-Free; Type: CFA; Mounting Technology: Surface Mount; ComponentLink1Description: Manufacturer URL; ComponentLink1URL: http://www.linear.com/; ComponentLink2Description: Datasheet; ComponentLink2URL: http://cds.linear.com/docs/en/datasheet/139567fd.pdf; ComponentLink3Description: Package Specification; ComponentLink3URL: http://cds.linear.com/docs/en/packaging/05081610_G_SO8.pdf
footprint LT-S8-8_N (SOIC, 8-Leads, Body 4.9x3.9mm, Pitch 1.27mm, IPC Medium Density)
footprint LT-S8-8_L (SOIC, 8-Leads, Body 4.9x3.9mm, Pitch 1.27mm, IPC High Density)
footprint LT-S8-8_M (SOIC, 8-Leads, Body 4.9x3.9mm, Pitch 1.27mm, IPC Low Density)
pins on every part: 4 V- (power), 8 V+ (power)
part A pins: 1 OUT A (out), 2 -IN A (in), 3 +IN A (in)
part B pins: 5 +IN B (in), 6 -IN B (in), 7 OUT B (out)

## LT1397CGN
designator U?
Quad Channel, Current Feedback Amplifier, 100 MHz 0.1 dB Bandwidth, 400 MHz Typical GBW, 800 V/us Typical SR, 3 to 12.6 V, 16-Pin SOP (GN-16), Commercial; Linear Technology Part Number: LT1397; Manufacturer: Linear Technology; PartNumber: LT1397CGN; Channels (#): 4; GBW (MHz) Typical: 400; Is (mA) Typical: 4.6; SR (V/us) Typical: 800; Vos (mV) Typical: 10; Vs Max (V): 12.6; Vs Min (V): 3; DatasheetVersion: Rev. D; PackageVersion: Rev B; PackageReference: LT-GN-16; PackageDescription: 16-Lead Plastic SSOP, Body 4.9 x 3.9 mm, Pitch 0.635 mm; Supplier 1: Digi-Key; Supplier Part Number 1: LT1397CGN-ND; Type: CFA; Mounting Technology: Surface Mount; ComponentLink1Description: Manufacturer URL; ComponentLink1URL: http://www.linear.com/; ComponentLink2Description: Datasheet; ComponentLink2URL: http://cds.linear.com/docs/en/datasheet/139567fd.pdf; ComponentLink3Description: Package Specification; ComponentLink3URL: http://cds.linear.com/docs/en/packaging/05081641_B_GN16.pdf
footprint LT-GN-16_N (SOP, 16-Leads, Body 4.9x3.9mm, Pitch 0.635mm, IPC Medium Density)
footprint LT-GN-16_L (SOP, 16-Leads, Body 4.9x3.9mm, Pitch 0.635mm, IPC High Density)
footprint LT-GN-16_M (SOP, 16-Leads, Body 4.9x3.9mm, Pitch 0.635mm, IPC Low Density)
part A pins: 1 OUT A (out) "A Channel Output", 2 -IN A (in) "Inverting Input of A Channel Amplifier", 3 +IN A (in) "Noninverting Input of A Channel Amplifier."
part B pins: 5 +IN B (in) "Noninverting Input of B Channel Amplifier.", 6 -IN B (in) "Inverting Input of B Channel Amplifier.", 7 OUT B (out) "B Channel Output"
part C pins: 10 OUT C (out) "C Channel Output.", 11 -IN C (in) "Inverting Input of C Channel Amplifier.", 12 +IN C (in) "Noninverting Input of C Channel Amplifier."
part D pins: 14 +IN D (in) "Noninverting Input of D Channel Amplifier.", 15 -IN D (in) "Inverting Input of D Channel Amplifier.", 16 OUT D (out) "D Channel Output."
part E pins: 4 V+ (power) "Positive Supply Voltage, Usually 5V.", 8 NC "No Connection.", 9 NC "No Connection.", 13 V- (power) "Negative Supply Voltage, Usually -5V."

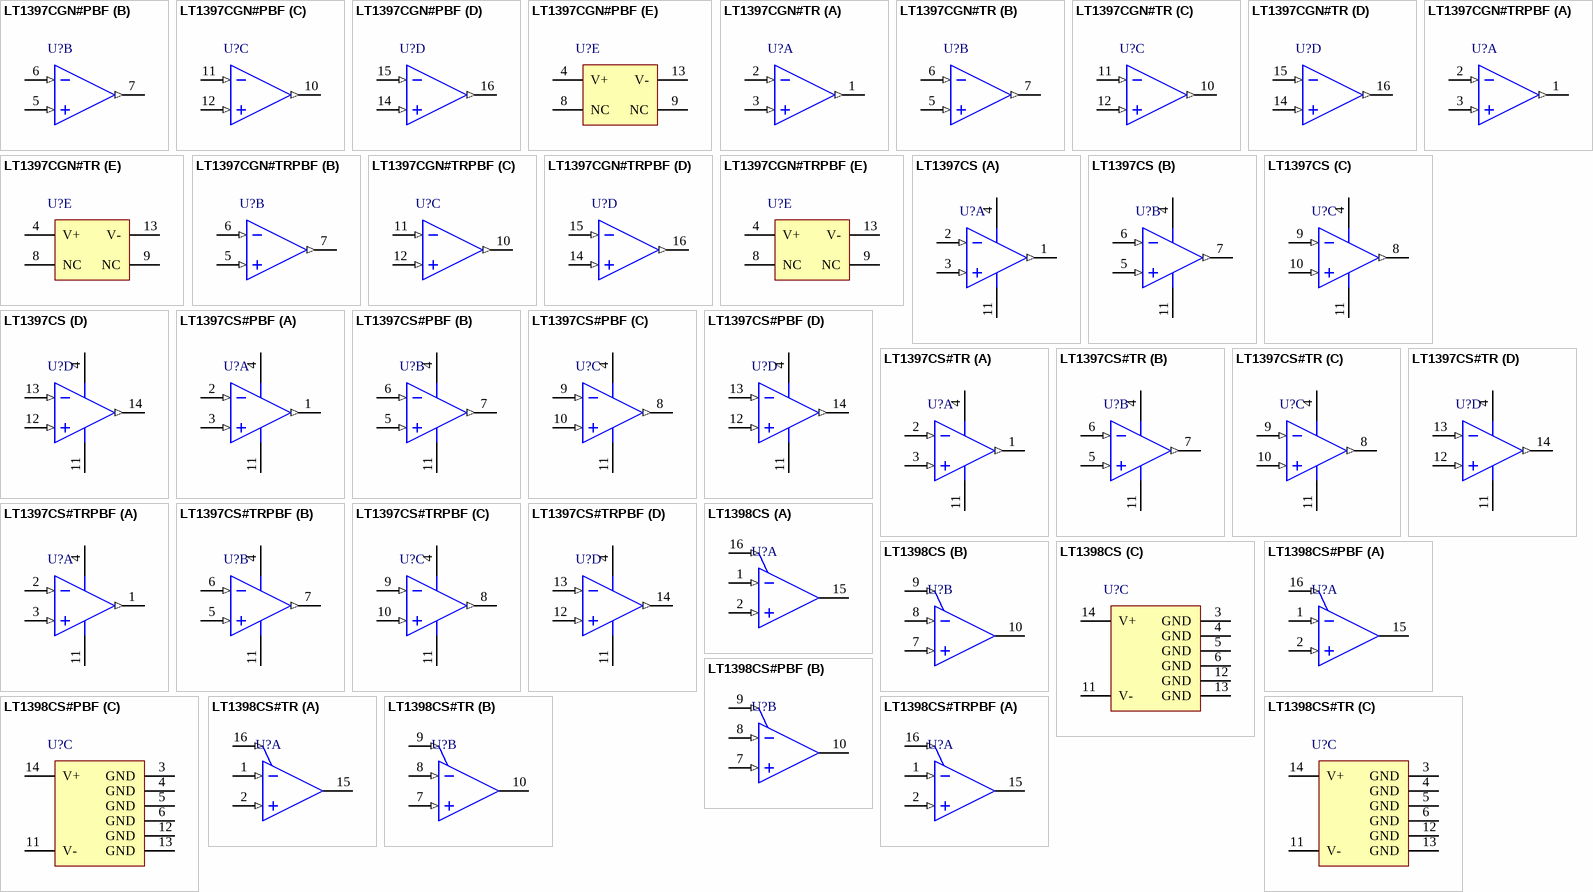
[diagram p35: symbols LT1397CGN#PBF to LT1398CS#TRPBF]

## LT1397CGN#PBF
designator U?
Quad Channel, Current Feedback Amplifier, 100 MHz 0.1 dB Bandwidth, 400 MHz Typical GBW, 800 V/us Typical SR, 3 to 12.6 V, 16-Pin SOP (GN-16), Commercial, Pb-Free; Linear Technology Part Number: LT1397; Manufacturer: Linear Technology; PartNumber: LT1397CGN#PBF; Channels (#): 4; GBW (MHz) Typical: 400; Is (mA) Typical: 4.6; SR (V/us) Typical: 800; Vos (mV) Typical: 10; Vs Max (V): 12.6; Vs Min (V): 3; DatasheetVersion: Rev. D; PackageVersion: Rev B; PackageReference: LT-GN-16; PackageDescription: 16-Lead Plastic SSOP, Body 4.9 x 3.9 mm, Pitch 0.635 mm; Supplier 1: Digi-Key; Supplier Part Number 1: LT1397CGN#PBF-ND; RoHS: Pb-Free; Type: CFA; Mounting Technology: Surface Mount; ComponentLink1Description: Manufacturer URL; ComponentLink1URL: http://www.linear.com/; ComponentLink2Description: Datasheet; ComponentLink2URL: http://cds.linear.com/docs/en/datasheet/139567fd.pdf; ComponentLink3Description: Package Specification; ComponentLink3URL: http://cds.linear.com/docs/en/packaging/05081641_B_GN16.pdf
footprint LT-GN-16_N (SOP, 16-Leads, Body 4.9x3.9mm, Pitch 0.635mm, IPC Medium Density)
footprint LT-GN-16_L (SOP, 16-Leads, Body 4.9x3.9mm, Pitch 0.635mm, IPC High Density)
footprint LT-GN-16_M (SOP, 16-Leads, Body 4.9x3.9mm, Pitch 0.635mm, IPC Low Density)
part A pins: 1 OUT A (out) "A Channel Output", 2 -IN A (in) "Inverting Input of A Channel Amplifier", 3 +IN A (in) "Noninverting Input of A Channel Amplifier."
part B pins: 5 +IN B (in) "Noninverting Input of B Channel Amplifier.", 6 -IN B (in) "Inverting Input of B Channel Amplifier.", 7 OUT B (out) "B Channel Output"
part C pins: 10 OUT C (out) "C Channel Output.", 11 -IN C (in) "Inverting Input of C Channel Amplifier.", 12 +IN C (in) "Noninverting Input of C Channel Amplifier."
part D pins: 14 +IN D (in) "Noninverting Input of D Channel Amplifier.", 15 -IN D (in) "Inverting Input of D Channel Amplifier.", 16 OUT D (out) "D Channel Output."
part E pins: 4 V+ (power) "Positive Supply Voltage, Usually 5V.", 8 NC "No Connection.", 9 NC "No Connection.", 13 V- (power) "Negative Supply Voltage, Usually -5V."

## LT1397CGN#TR
designator U?
Quad Channel, Current Feedback Amplifier, 100 MHz 0.1 dB Bandwidth, 400 MHz Typical GBW, 800 V/us Typical SR, 3 to 12.6 V, 16-Pin SOP (GN-16), Commercial, Reel; Linear Technology Part Number: LT1397; Manufacturer: Linear Technology; PartNumber: LT1397CGN#TR; Channels (#): 4; GBW (MHz) Typical: 400; Is (mA) Typical: 4.6; SR (V/us) Typical: 800; Vos (mV) Typical: 10; Vs Max (V): 12.6; Vs Min (V): 3; DatasheetVersion: Rev. D; PackageVersion: Rev B; PackageReference: LT-GN-16; PackageDescription: 16-Lead Plastic SSOP, Body 4.9 x 3.9 mm, Pitch 0.635 mm; Supplier 1: Digi-Key; Supplier Part Number 1: LT1397CGN#TR-ND; Packing: Reel; Type: CFA; Mounting Technology: Surface Mount; ComponentLink1Description: Manufacturer URL; ComponentLink1URL: http://www.linear.com/; ComponentLink2Description: Datasheet; ComponentLink2URL: http://cds.linear.com/docs/en/datasheet/139567fd.pdf; ComponentLink3Description: Package Specification; ComponentLink3URL: http://cds.linear.com/docs/en/packaging/05081641_B_GN16.pdf
footprint LT-GN-16_N (SOP, 16-Leads, Body 4.9x3.9mm, Pitch 0.635mm, IPC Medium Density)
footprint LT-GN-16_L (SOP, 16-Leads, Body 4.9x3.9mm, Pitch 0.635mm, IPC High Density)
footprint LT-GN-16_M (SOP, 16-Leads, Body 4.9x3.9mm, Pitch 0.635mm, IPC Low Density)
part A pins: 1 OUT A (out) "A Channel Output", 2 -IN A (in) "Inverting Input of A Channel Amplifier", 3 +IN A (in) "Noninverting Input of A Channel Amplifier."
part B pins: 5 +IN B (in) "Noninverting Input of B Channel Amplifier.", 6 -IN B (in) "Inverting Input of B Channel Amplifier.", 7 OUT B (out) "B Channel Output"
part C pins: 10 OUT C (out) "C Channel Output.", 11 -IN C (in) "Inverting Input of C Channel Amplifier.", 12 +IN C (in) "Noninverting Input of C Channel Amplifier."
part D pins: 14 +IN D (in) "Noninverting Input of D Channel Amplifier.", 15 -IN D (in) "Inverting Input of D Channel Amplifier.", 16 OUT D (out) "D Channel Output."
part E pins: 4 V+ (power) "Positive Supply Voltage, Usually 5V.", 8 NC "No Connection.", 9 NC "No Connection.", 13 V- (power) "Negative Supply Voltage, Usually -5V."

## LT1397CGN#TRPBF
designator U?
Quad Channel, Current Feedback Amplifier, 100 MHz 0.1 dB Bandwidth, 400 MHz Typical GBW, 800 V/us Typical SR, 3 to 12.6 V, 16-Pin SOP (GN-16), Commercial, Pb-Free, Reel; Linear Technology Part Number: LT1397; Manufacturer: Linear Technology; PartNumber: LT1397CGN#TRPBF; Channels (#): 4; GBW (MHz) Typical: 400; Is (mA) Typical: 4.6; SR (V/us) Typical: 800; Vos (mV) Typical: 10; Vs Max (V): 12.6; Vs Min (V): 3; DatasheetVersion: Rev. D; PackageVersion: Rev B; PackageReference: LT-GN-16; PackageDescription: 16-Lead Plastic SSOP, Body 4.9 x 3.9 mm, Pitch 0.635 mm; Supplier 1: Digi-Key; Supplier Part Number 1: LT1397CGN#TRPBF-ND; Packing: Reel; RoHS: Pb-Free; Type: CFA; Mounting Technology: Surface Mount; ComponentLink1Description: Manufacturer URL; ComponentLink1URL: http://www.linear.com/; ComponentLink2Description: Datasheet; ComponentLink2URL: http://cds.linear.com/docs/en/datasheet/139567fd.pdf; ComponentLink3Description: Package Specification; ComponentLink3URL: http://cds.linear.com/docs/en/packaging/05081641_B_GN16.pdf
footprint LT-GN-16_N (SOP, 16-Leads, Body 4.9x3.9mm, Pitch 0.635mm, IPC Medium Density)
footprint LT-GN-16_L (SOP, 16-Leads, Body 4.9x3.9mm, Pitch 0.635mm, IPC High Density)
footprint LT-GN-16_M (SOP, 16-Leads, Body 4.9x3.9mm, Pitch 0.635mm, IPC Low Density)
part A pins: 1 OUT A (out) "A Channel Output", 2 -IN A (in) "Inverting Input of A Channel Amplifier", 3 +IN A (in) "Noninverting Input of A Channel Amplifier."
part B pins: 5 +IN B (in) "Noninverting Input of B Channel Amplifier.", 6 -IN B (in) "Inverting Input of B Channel Amplifier.", 7 OUT B (out) "B Channel Output"
part C pins: 10 OUT C (out) "C Channel Output.", 11 -IN C (in) "Inverting Input of C Channel Amplifier.", 12 +IN C (in) "Noninverting Input of C Channel Amplifier."
part D pins: 14 +IN D (in) "Noninverting Input of D Channel Amplifier.", 15 -IN D (in) "Inverting Input of D Channel Amplifier.", 16 OUT D (out) "D Channel Output."
part E pins: 4 V+ (power) "Positive Supply Voltage, Usually 5V.", 8 NC "No Connection.", 9 NC "No Connection.", 13 V- (power) "Negative Supply Voltage, Usually -5V."